# Altium footprint library PcbLib1.PcbLib: 1 footprints
Each footprint in its own frame and in the unit in brackets; x right, y up, seen from the top. Pads: shape width x height; smd on the part's side, far side on the other; paste and mask are expansions set on the pad; w line width, h text height; cw(c..) or ccw(c..) is an arc to the next point about the centre after c.
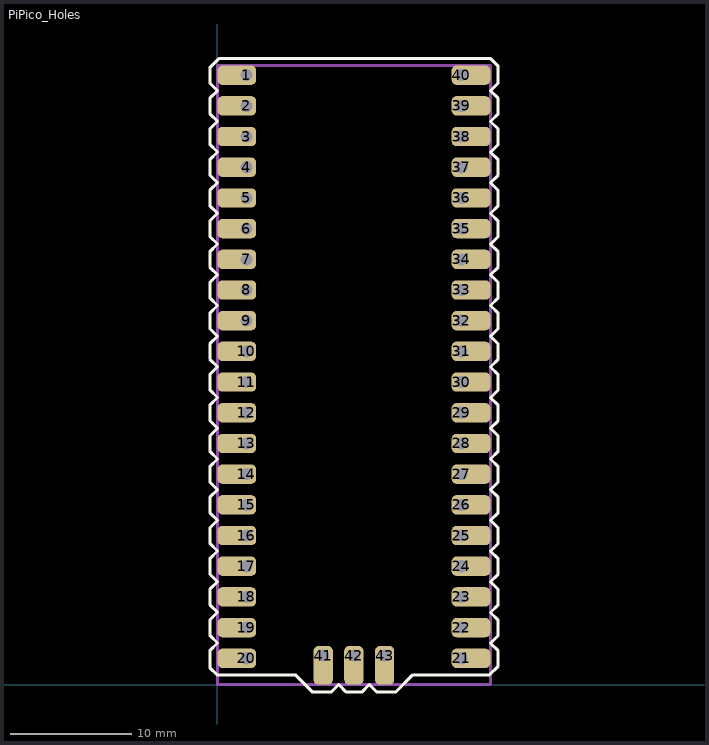
[diagram p0: the footprint, top view; thin cyan lines are the x and y axes]

## PiPico_Holes [mm]
pads (43):
  rrect50% 3.2x1.6 hole 1 copper offset -0.8,0: 1(2.4,50.43) 2(2.4,47.89) 3(2.4,45.35) 4(2.4,42.81) 5(2.4,40.27) 6(2.4,37.73) 7(2.4,35.19) 8(2.4,32.65) 9(2.4,30.11) 10(2.4,27.57) 11(2.4,25.03) 12(2.4,22.49) 13(2.4,19.95) 14(2.4,17.41) 15(2.4,14.87) 16(2.4,12.33) 17(2.4,9.79) 18(2.4,7.25) 19(2.4,4.71) 20(2.4,2.17)
  rrect50% 3.2x1.6 hole 1 copper offset 0.8,0: 21(20.18,2.17) 22(20.18,4.71) 23(20.18,7.25) 24(20.18,9.79) 25(20.18,12.33) 26(20.18,14.87) 27(20.18,17.41) 28(20.18,19.95) 29(20.18,22.49) 30(20.18,25.03) 31(20.18,27.57) 32(20.18,30.11) 33(20.18,32.65) 34(20.18,35.19) 35(20.18,37.73) 36(20.18,40.27) 37(20.18,42.81) 38(20.18,45.35) 39(20.18,47.89) 40(20.18,50.43)
  rrect50% 1.6x3.2 hole 1 copper offset 0,-0.8: 41(8.75,2.39) 42(11.29,2.39) 43(13.83,2.39)
Top Overlay:
  lines w0.254: -0.635,1.397 -0.635,2.794 0,3.429 -0.635,4.064 -0.635,5.334 0,5.969 -0.635,6.604 -0.635,7.874 0,8.509 -0.635,9.144 -0.635,10.414 0,11.049 -0.635,11.684 -0.635,12.954 0,13.589 -0.635,14.224 -0.635,15.494 0,16.129 -0.635,16.764 -0.635,18.034 0,18.669 -0.635,19.304 -0.635,20.574 0,21.209 -0.635,21.844 -0.635,23.114 0,23.749 -0.635,24.384 -0.635,25.654 0,26.289 -0.635,26.924 -0.635,28.194 0,28.829 -0.635,29.464 -0.635,30.734 0,31.369 -0.635,32.004 -0.635,33.274 0,33.909 -0.635,34.544 -0.635,35.814 0,36.449 -0.635,37.084 -0.635,38.354 0,38.989 -0.635,39.624 -0.635,40.894 0,41.529 -0.635,42.164 -0.635,43.434 0,44.069 -0.635,44.704 -0.635,45.974 0,46.609 -0.635,47.244 -0.635,48.514 0,49.149 -0.635,49.784 -0.635,51.054 0.111,51.8 0.79,51.8 22.606,51.8 23.233,51.173 23.233,49.776 22.598,49.141 23.233,48.506 23.233,47.236 22.598,46.601 23.233,45.966 23.233,44.696 22.598,44.061 23.233,43.426 23.233,42.156 22.598,41.521 23.233,40.886 23.233,39.616 22.598,38.981 23.233,38.346 23.233,37.076 22.598,36.441 23.233,35.806 23.233,34.536 22.598,33.901 23.233,33.266 23.233,31.996 22.598,31.361 23.233,30.726 23.233,29.456 22.598,28.821 23.233,28.186 23.233,26.916 22.598,26.281 23.233,25.646 23.233,24.376 22.598,23.741 23.233,23.106 23.233,21.836 22.598,21.201 23.233,20.566 23.233,19.296 22.598,18.661 23.233,18.026 23.233,16.756 22.598,16.121 23.233,15.486 23.233,14.216 22.598,13.581 23.233,12.946 23.233,11.676 22.598,11.041 23.233,10.406 23.233,9.136 22.598,8.501 23.233,7.866 23.233,6.596 22.598,5.961 23.233,5.326 23.233,4.056 22.598,3.421 23.233,2.786 23.233,1.516 22.517,0.8 21.79,0.8 16.167,0.8 14.732,-0.635 13.208,-0.635 12.573,0 11.938,-0.635 10.668,-0.635 10.033,0 9.398,-0.635 7.874,-0.635 6.439,0.8 -0.038,0.8 -0.635,1.397
Mechanical 1:
  lines w0.254: 0,0 0,51.23 22.58,51.23 22.58,0 0,0
3D body "Pico-R3.step": height 3.74, standoff 0.01, extent 0.79,0.8 21.79,53.1